# Altium integrated library rmelo19-library.IntLib: 16 symbols
Pins are listed as number, name and electrical type; pins without a type are passive.

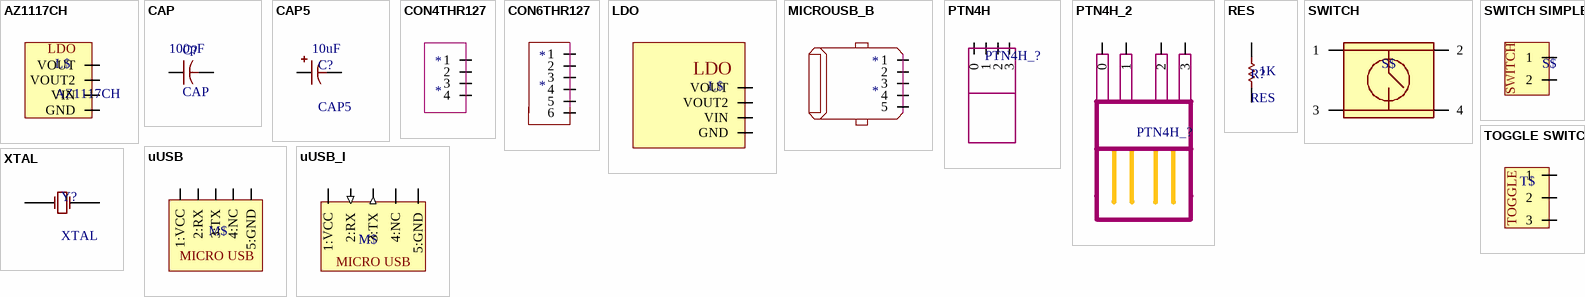
[diagram p0: symbols AZ1117CH to XTAL]

## AZ1117CH
designator L$
Low Dropout Voltage Regulator - Imperial Units
footprint SOT-223-DB3_L (SOT223, 4-Leads, Body 6.5x3.5mm, Pitch 2.3mm, Lead Span 7mm, IPC High Density); pin to pad GND>1 VIN>3 VOUT>2 VOUT2>4
pins: GND, VIN, VOUT, VOUT2
text: LDO

## CAP
designator C?  value 100pF
Capacitor - Imperial Units; Published: 23-Sep-2002; PackageReference: CAPR5-4X5; Publisher: Altium Limited; PackageDescription: Capacitor; 2 Leads
footprint 0805
footprint CAP4 (Radial Cap, Thru-Hole; 2 Leads; 4mm Pin Spacing)
pins: 1, 2

## CAP5
designator C?  value 10uF
Aluminum Capacitor - Imperial Units; Published: 23-Sep-2002; PackageReference: CAPR5-4X5; Publisher: Altium Limited; PackageDescription: Capacitor; 2 Leads
footprint CAP5
pins: 1, 2

## CON4THR127
designator *
footprint CON4THR127 (Connector, Through Hole, 1.27mm)
footprint CON4THR127NOSILK (Connector, Through Hole, 1.27mm)
pins: 1, 2, 3, 4

## CON6THR127
designator *
footprint CON6THR127 (Connector, Through Hole, 1.27mm)
footprint CON6THR127NOSILK (Connector, Through Hole, 1.27mm)
pins: 1, 2, 3, 4, 5, 6

## LDO
designator L$  (value not drawn)
Low Dropout Voltage Regulator - Imperial Units
pins: GND, VIN, VOUT, VOUT2

## MICROUSB_B
designator *
pins: 1, 2, 3, 4, 5

## PTN4H
designator PTN4H_?  (value not drawn)
Omnetics PTN Connector 4 pins, Horizontal
footprint PTN4H
pins: 0, 1, 2, 3

## PTN4H_2
designator PTN4H_?  (value not drawn)
Omnetics PTN Connector 4 pins, Horizontal
footprint PTN4H
pins: 0, 1, 2, 3

## RES
designator R?  value 1K
Resistor - Imperial Units; Published: 8-Jun-2000; LatestRevisionDate: 17-Jul-2002; LatestRevisionNote: Re-released for DXP Platform.; PackageReference: AXIAL-0.3; Publisher: Altium Limited; PackageDescription: Axial Device, Thru-Hole; 2 Leads; 0.3 in Pin Spacing
simulation model RESISTOR (Resistor)
signal-integrity model Res
footprint 0805
pins: 1, 2

## SWITCH
designator S$  (value not drawn)
Switch - Imperial Units
footprint SWITCH
pins: 1, 2, 3, 4

## SWITCH SIMPLE
designator S$  (value not drawn)
Switch - Imperial Units
pins: 1, 2
text: SWITCH

## TOGGLE SWITCH
designator T$  (value not drawn)
Toggle Switch - Imperial Units
footprint TOGGLE SWITCH
pins: 1, 2, 3
text: TOGGLE

## uUSB
designator M$  (value not drawn)
Micro USB Type B
footprint MICROUSB_B (Micro USB Type B Footprint); pin to pad 0>1:VCC 1>2:RX 2>3:TX 3>4:NC 4>5:GND
pins: 0 1:VCC (power), 1 2:RX (in), 2 3:TX (out), 3 4:NC (hiz), 4 5:GND (power)
text: MICRO USB

## uUSB_I
designator M$  (value not drawn)
Micro USB Type B - Imperial Units
footprint MICROUSB_B (Micro USB Type B Footprint); pin to pad 0>1:VCC 1>2:RX 2>3:TX 3>4:NC 4>5:GND
pins: 0 1:VCC (power), 1 2:RX (in), 2 3:TX (out), 3 4:NC (hiz), 4 5:GND (power)
text: MICRO USB

## XTAL
designator Y?
Crystal Oscillator - Imperial Units; Published: 8-Jun-2000; LatestRevisionDate: 17-Jul-2002; LatestRevisionNote: Re-released for DXP Platform.; PackageReference: R38; Publisher: Altium Limited; PackageDescription: Crystal, Thru-Hole; 2 Leads; Body 3.1 x 8.2 mm (Dia.xH)
footprint CRYSTAL
pins: 1 OSC1, 2 OSC2